# Altium footprint library Pcb_Antenna.PcbLib: 1 footprints
Each footprint in its own frame and in the unit in brackets; x right, y up, seen from the top. Pads: shape width x height; smd on the part's side, far side on the other; paste and mask are expansions set on the pad; w line width, h text height; cw(c..) or ccw(c..) is an arc to the next point about the centre after c.
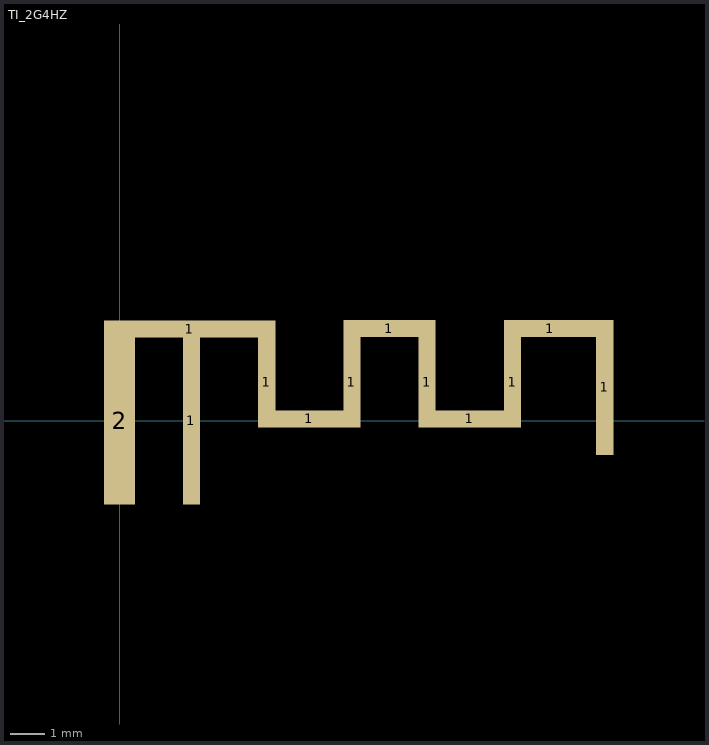
[diagram p0: the footprint, top view; thin cyan lines are the x and y axes]

## TI_2G4HZ [mm]
pads (12):
  rect 5x0.5 smd: 1(2.05,2.675)
  rect 0.5x4.9 smd: 1(2.1,0)
  rect 0.5x2.64 smd: 1(4.3,1.123) 1(6.786,1.123) 1(8.986,1.122) 1(11.482,1.122)
  rect 2x0.5 smd: 1(5.545,0.053) 1(10.234,0.052)
  rect 2.7x0.5 smd: 1(7.886,2.69) 1(12.582,2.69)
  rect 0.5x3.94 smd: 1(14.179,0.969)
  rect 0.9x4.9 smd: 2(0,0)